# EAGLE library part DUALMCU (library UNIT_Biblioteca_Modulos)
Source: Datasheet <https://github.com/UNIT-Electronics/DualMCU/blob/main/DualMCU(Product%20Reference%20Manual).pdf> Source: Github <https://github.com/UNIT-Electronics/DualMCU> Source: Store <https://uelectronics.com/> SKU: AR3578 Propietario: UNIT Electronics Desarrollador: Adrían Rabadán Ortiz.
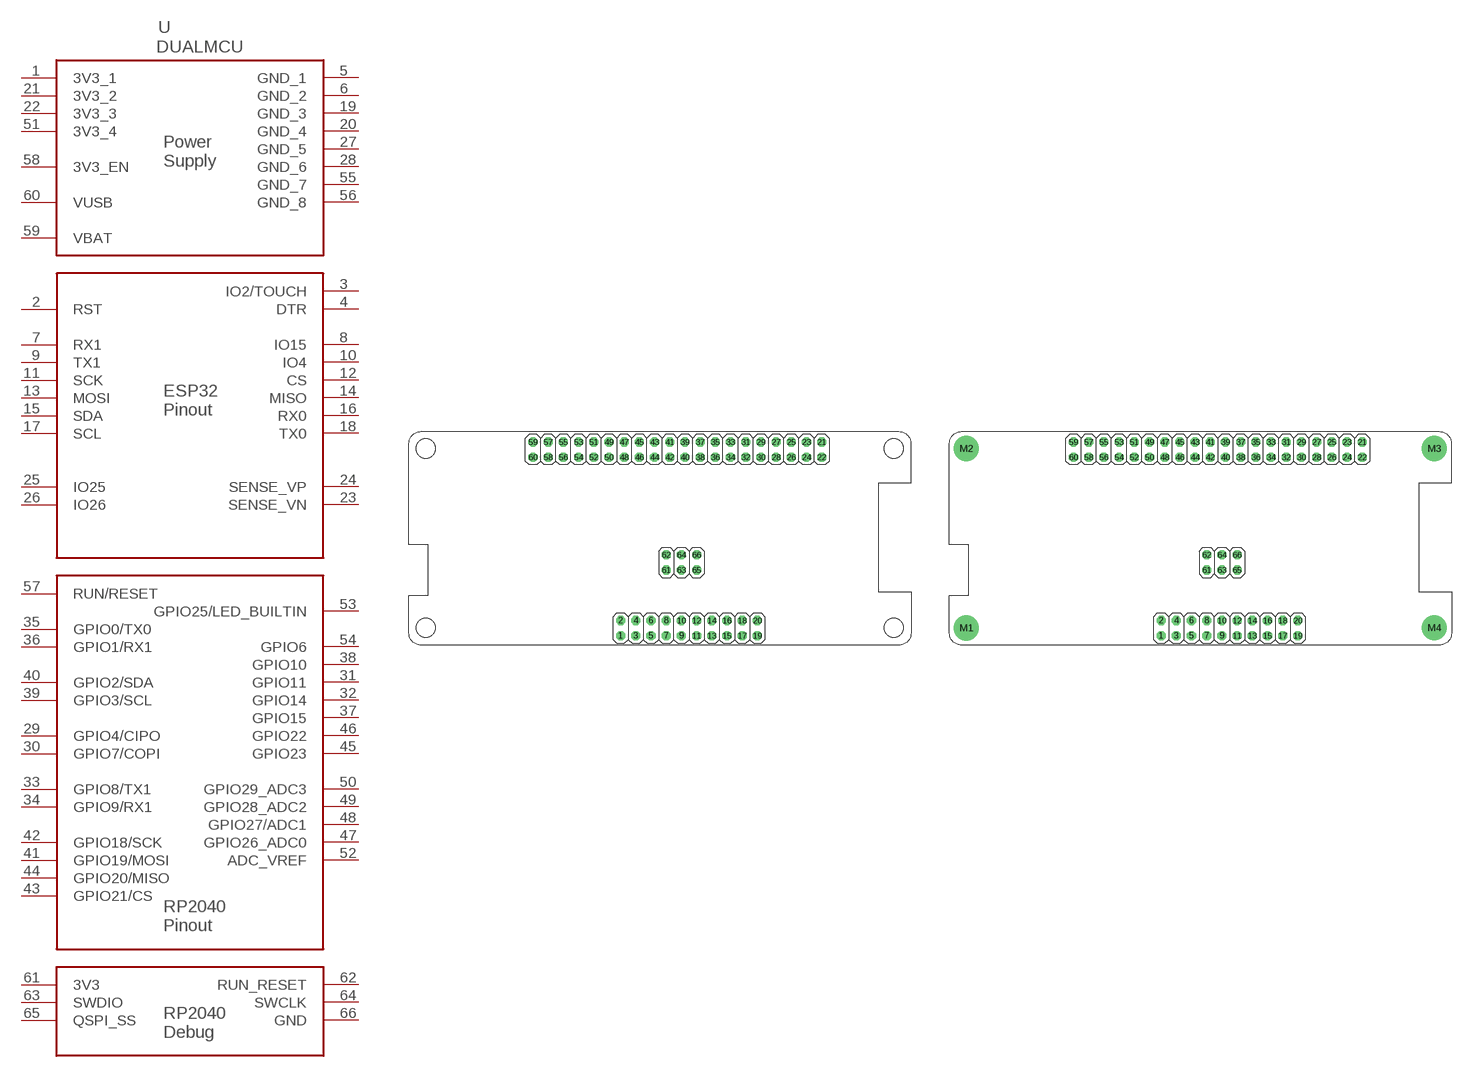
[diagram p1: symbol with the pads of DUALMCU; footprints DUALMCU, DUALMCU_TOP_MHOLES]

Designator prefix U

## DUALMCU (CLASS: Module; DESCRIPTION: DualMCU ESP32 + RP2040; MANUFACTURER_NAME: UNIT Electronics; MANUFACTURER_PART_NUMBER: Dual MCU; VENDOR_PART_NUMBER: AR3578; VENDOR_PRICE-STOCK: https://uelectronics.com/producto/unit-dualmcu-esp32-rp2040-tarjeta-de-desarrollo/)  [DUALMCU]
1  3V3_1
2  RST
3  IO2/TOUCH
4  DTR
5  GND_1
6  GND_2
7  RX1
8  IO15
9  TX1
10  IO4
11  SCK
12  CS
13  MOSI
14  MISO
15  SDA
16  RX0
17  SCL
18  TX0
19  GND_3
20  GND_4
21  3V3_2
22  3V3_3
23  SENSE_VN
24  SENSE_VP
25  IO25
26  IO26
27  GND_5
28  GND_6
29  GPIO4/CIPO
30  GPIO7/COPI
31  GPIO11
32  GPIO14
33  GPIO8/TX1
34  GPIO9/RX1
35  GPIO0/TX0
36  GPIO1/RX1
37  GPIO15
38  GPIO10
39  GPIO3/SCL
40  GPIO2/SDA
41  GPIO19/MOSI
42  GPIO18/SCK
43  GPIO21/CS
44  GPIO20/MISO
45  GPIO23
46  GPIO22
47  GPIO26_ADC0
48  GPIO27/ADC1
49  GPIO28_ADC2
50  GPIO29_ADC3
51  3V3_4
52  ADC_VREF
53  GPIO25/LED_BUILTIN
54  GPIO6
55  GND_7
56  GND_8
57  RUN/RESET
58  3V3_EN
59  VBAT
60  VUSB
61  3V3
62  RUN_RESET
63  SWDIO
64  SWCLK
65  QSPI_SS
66  GND

## DUALMCUDUALMCU_TOPSIDE  [DUALMCU]
Pads as for DUALMCU

## DUALMCUDUALMCU_TOP_MHOLES (CLASS: Modules; DESCRIPTION: Dual MCU; MANUFACTURER_NAME: UNIT Electronics; MANUFACTURER_PART_NUMBER: Dual MCU; SKU: UE0002; VENDOR_PART_NUMBER: AR3578; VENDOR_PRICE-STOCK: https://uelectronics.com/producto/unit-dualmcu-esp32-rp2040-tarjeta-de-desarrollo/)  [DUALMCU_TOP_MHOLES]
Pads as for DUALMCU

## Footprint DUALMCU (pad centres in mm)
drill 1.016 octagon: 1 35.386,1.58; 2 35.386,4.12; 3 37.926,1.58; 4 37.926,4.12; 5 40.466,1.58; 6 40.466,4.12; 7 43.006,1.58; 8 43.006,4.12; 9 45.546,1.58; 10 45.546,4.12; 11 48.086,1.58; 12 48.086,4.12; 13 50.626,1.58; 14 50.626,4.12; 15 53.166,1.58; 16 53.166,4.12; 17 55.706,1.58; 18 55.706,4.12; 19 58.246,1.58; 20 58.246,4.12; 21 68.994,33.959; 22 68.994,31.419; 23 66.454,33.959; 24 66.454,31.419; 25 63.914,33.959; 26 63.914,31.419; 27 61.374,33.959; 28 61.374,31.419; 29 58.834,33.959; 30 58.834,31.419; 31 56.294,33.959; 32 56.294,31.419; 33 53.754,33.959; 34 53.754,31.419; 35 51.214,33.959; 36 51.214,31.419; 37 48.674,33.959; 38 48.674,31.419; 39 46.134,33.959; 40 46.134,31.419; 41 43.594,33.959; 42 43.594,31.419; 43 41.054,33.959; 44 41.054,31.419; 45 38.514,33.959; 46 38.514,31.419; 47 35.974,33.959; 48 35.974,31.419; 49 33.434,33.959; 50 33.434,31.419; 51 30.894,33.959; 52 30.894,31.419; 53 28.354,33.959; 54 28.354,31.419; 55 25.814,33.959; 56 25.814,31.419; 57 23.274,33.959; 58 23.274,31.419; 59 20.734,33.959; 60 20.734,31.419; 61 43.009,12.559; 62 43.009,15.099; 63 45.549,12.559; 64 45.549,15.099; 65 48.089,12.559; 66 48.089,15.099

## Footprint DUALMCU_TOP_MHOLES (pad centres in mm)
drill 1.016 octagon: 1 35.386,1.58; 2 35.386,4.12; 3 37.926,1.58; 4 37.926,4.12; 5 40.466,1.58; 6 40.466,4.12; 7 43.006,1.58; 8 43.006,4.12; 9 45.546,1.58; 10 45.546,4.12; 11 48.086,1.58; 12 48.086,4.12; 13 50.626,1.58; 14 50.626,4.12; 15 53.166,1.58; 16 53.166,4.12; 17 55.706,1.58; 18 55.706,4.12; 19 58.246,1.58; 20 58.246,4.12; 21 68.994,33.959; 22 68.994,31.419; 23 66.454,33.959; 24 66.454,31.419; 25 63.914,33.959; 26 63.914,31.419; 27 61.374,33.959; 28 61.374,31.419; 29 58.834,33.959; 30 58.834,31.419; 31 56.294,33.959; 32 56.294,31.419; 33 53.754,33.959; 34 53.754,31.419; 35 51.214,33.959; 36 51.214,31.419; 37 48.674,33.959; 38 48.674,31.419; 39 46.134,33.959; 40 46.134,31.419; 41 43.594,33.959; 42 43.594,31.419; 43 41.054,33.959; 44 41.054,31.419; 45 38.514,33.959; 46 38.514,31.419; 47 35.974,33.959; 48 35.974,31.419; 49 33.434,33.959; 50 33.434,31.419; 51 30.894,33.959; 52 30.894,31.419; 53 28.354,33.959; 54 28.354,31.419; 55 25.814,33.959; 56 25.814,31.419; 57 23.274,33.959; 58 23.274,31.419; 59 20.734,33.959; 60 20.734,31.419; 61 43.009,12.559; 62 43.009,15.099; 63 45.549,12.559; 64 45.549,15.099; 65 48.089,12.559; 66 48.089,15.099
drill 3.2: M1 2.8,2.886; M2 2.806,32.879; M3 81.051,32.873; M4 81.043,2.916